# EAGLE library part AD5302A (library IC)
Analog Devices Dual 8-bit buffered DAC
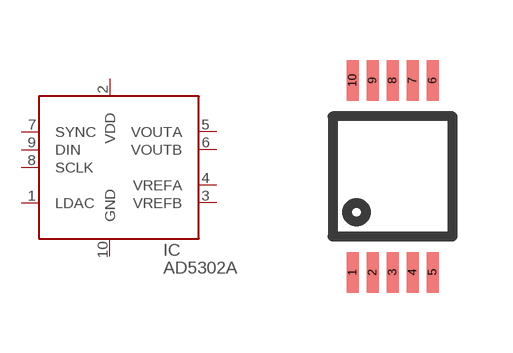
[diagram p80: symbol with the pads of MSOP-10; footprint MSOP-10]

Designator prefix IC

## AD5302ARM  [MSOP-10]
1  LDAC
2  VDD  pwr
3  VREFB
4  VREFA
5  VOUTA
6  VOUTB
7  SYNC
8  SCLK
9  DIN
10  GND  pwr

## Footprint MSOP-10 (pad centres in mm)
MSOP-10, National Semiconductor package number MUB10A
smd 0.3 x 1.02: 1 -1,-2.4; 2 -0.5,-2.4; 3 0,-2.4; 4 0.5,-2.4; 5 1,-2.4; 6 1,2.4; 7 0.5,2.4; 8 0,2.4; 9 -0.5,2.4; 10 -1,2.4